# Altium footprint library Cystal.PcbLib: 1 footprints
Each footprint in its own frame and in the unit in brackets; x right, y up, seen from the top. Pads: shape width x height; smd on the part's side, far side on the other; paste and mask are expansions set on the pad; w line width, h text height; cw(c..) or ccw(c..) is an arc to the next point about the centre after c.
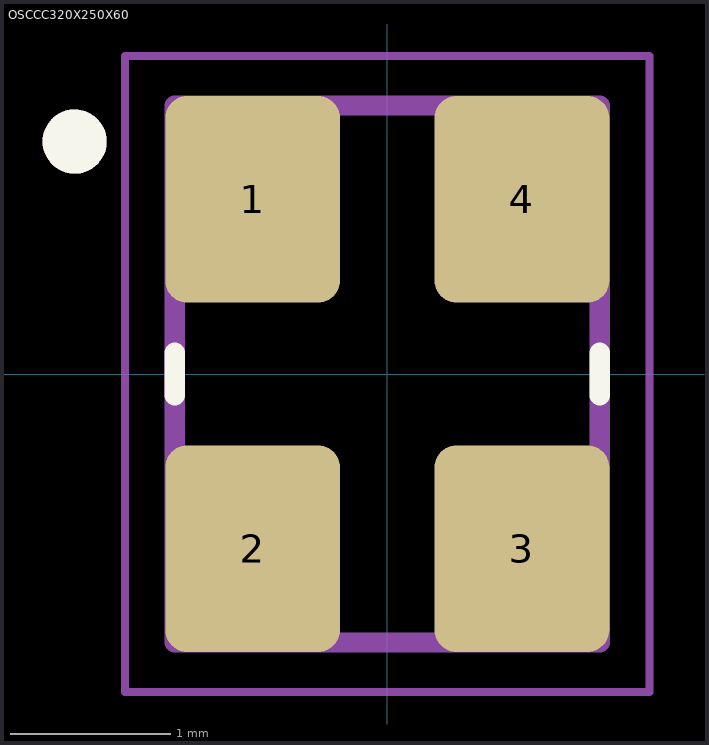
[diagram p0: the footprint, top view; thin cyan lines are the x and y axes]

## OSCCC320X250X60 [mm]
pads (4):
  rrect25% 1.09x1.29 smd: 1(-0.84,1.09) 2(-0.84,-1.09) 3(0.84,-1.09) 4(0.84,1.09)
Top Overlay:
  circle w0.2: c-1.95,1.45 r0.1
  lines w0.127: -1.325,-0.132 -1.325,0.132 ; 1.325,-0.132 1.325,0.132
Mechanical 13:
  circle w0.2: c-1.95,1.45 r0.1
  lines w0.127: -1.325,-1.675 1.325,-1.675 1.325,1.675 -1.325,1.675 -1.325,-1.675
Mechanical 15:
  lines w0.05: -1.635,-1.985 1.635,-1.985 1.635,1.985 -1.635,1.985 -1.635,-1.985